# EAGLE library part EC20 (library basicBoard)
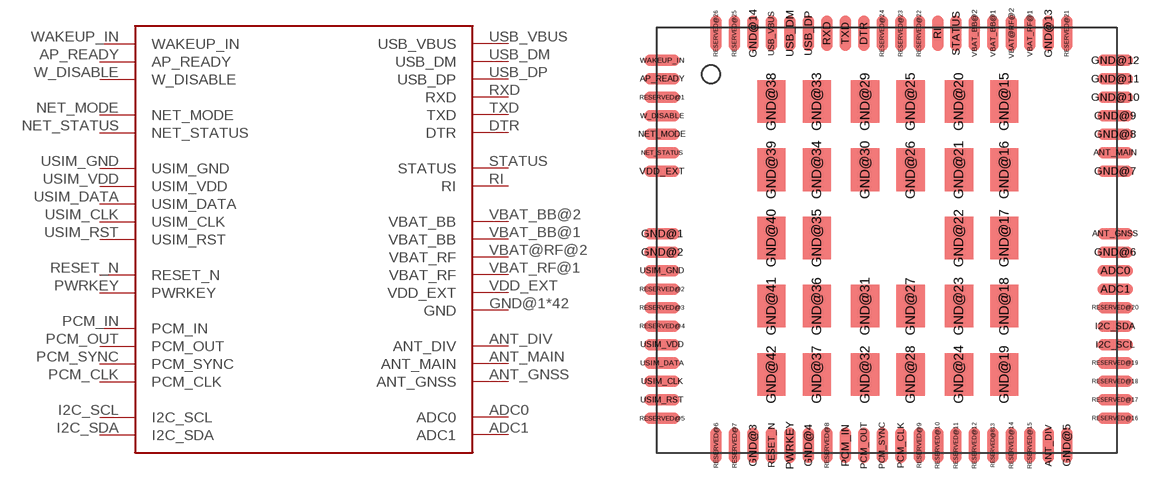
[diagram p11: symbol with the pads of EC20; footprint EC20]

Designator prefix -

## EC20  [EC20]
ADC0  ADC0
ADC1  ADC1
ANT_DIV  ANT_DIV
ANT_GNSS  ANT_GNSS
ANT_MAIN  ANT_MAIN
AP_READY  AP_READY
DTR  DTR
GND@1  GND
GND@2  GND
GND@3  GND
GND@4  GND
GND@5  GND
GND@6  GND
GND@7  GND
GND@8  GND
GND@9  GND
GND@10  GND
GND@11  GND
GND@12  GND
GND@13  GND
GND@14  GND
GND@15  GND
GND@16  GND
GND@17  GND
GND@18  GND
GND@19  GND
GND@20  GND
GND@21  GND
GND@22  GND
GND@23  GND
GND@24  GND
GND@25  GND
GND@26  GND
GND@27  GND
GND@28  GND
GND@29  GND
GND@30  GND
GND@31  GND
GND@32  GND
GND@33  GND
GND@34  GND
GND@35  GND
GND@36  GND
GND@37  GND
GND@38  GND
GND@39  GND
GND@40  GND
GND@41  GND
GND@42  GND
I2C_SCL  I2C_SCL
I2C_SDA  I2C_SDA
NET_MODE  NET_MODE
NET_STATUS  NET_STATUS
PCM_CLK  PCM_CLK
PCM_IN  PCM_IN
PCM_OUT  PCM_OUT
PCM_SYNC  PCM_SYNC
PWRKEY  PWRKEY
RESET_N  RESET_N
RI  RI
RXD  RXD
STATUS  STATUS
TXD  TXD
USB_DM  USB_DM
USB_DP  USB_DP
USB_VBUS  USB_VBUS
USIM_CLK  USIM_CLK
USIM_DATA  USIM_DATA
USIM_GND  USIM_GND
USIM_RST  USIM_RST
USIM_VDD  USIM_VDD
VBAT@RF@2  VBAT_RF
VBAT_BB@1  VBAT_BB
VBAT_BB@2  VBAT_BB
VBAT_RF@1  VBAT_RF
VDD_EXT  VDD_EXT
W_DISABLE  W_DISABLE
WAKEUP_IN  WAKEUP_IN

## Footprint EC20 (pad centres in mm)
smd 2.5 x 0.8: ADC0 16.4,-2.4; ADC1 16.4,-3.7; ANT_GNSS 16.4,0.2; ANT_MAIN 16.4,5.9; AP_READY -15.5,11.1; GND@1 -15.5,0.2; GND@2 -15.5,-1.1; GND@6 16.4,-1.1; GND@7 16.4,4.6; GND@8 16.4,7.2; GND@9 16.4,8.5; GND@10 16.4,9.8; GND@11 16.4,11.1; GND@12 16.4,12.4; I2C_SCL 16.4,-7.6; I2C_SDA 16.4,-6.3; NET_MODE -15.5,7.2; NET_STATUS -15.5,5.9; RESERVED@1 -15.5,9.8; RESERVED@2 -15.5,-3.7; RESERVED@3 -15.5,-5; RESERVED@4 -15.5,-6.3; RESERVED@5 -15.5,-12.8; RESERVED@16 16.4,-12.8; RESERVED@17 16.4,-11.5; RESERVED@18 16.4,-10.2; RESERVED@19 16.4,-8.9; RESERVED@20 16.4,-5; USIM_CLK -15.5,-10.2; USIM_DATA -15.5,-8.9; USIM_GND -15.5,-2.4; USIM_RST -15.5,-11.5; USIM_VDD -15.5,-7.6; VDD_EXT -15.5,4.6; W_DISABLE -15.5,8.5; WAKEUP_IN -15.5,12.4
smd 0.8 x 2.5: ANT_DIV 11.7,-14.7; DTR -1.3,14.3; GND@3 -9.1,-14.7; GND@4 -5.2,-14.7; GND@5 13,-14.7; GND@13 11.7,14.3; GND@14 -9.1,14.3; PCM_CLK 1.3,-14.7; PCM_IN -2.6,-14.7; PCM_OUT -1.3,-14.7; PCM_SYNC 0,-14.7; PWRKEY -6.5,-14.7; RESERVED@6 -11.7,-14.7; RESERVED@7 -10.4,-14.7; RESERVED@8 -3.9,-14.7; RESERVED@9 2.6,-14.7; RESERVED@10 3.9,-14.7; RESERVED@11 5.2,-14.7; RESERVED@12 6.5,-14.7; RESERVED@14 9.1,-14.7; RESERVED@15 10.4,-14.7; RESERVED@21 13,14.3; RESERVED@22 2.6,14.3; RESERVED@23 1.3,14.3; RESERVED@24 0,14.3; RESERVED@25 -10.4,14.3; RESERVED@26 -11.7,14.3; RESERVED@813 7.8,-14.7; RESET_N -7.8,-14.7; RI 3.9,14.3; RXD -3.9,14.3; STATUS 5.2,14.3; TXD -2.6,14.3; USB_DM -6.5,14.3; USB_DP -5.2,14.3; USB_VBUS -7.8,14.3; VBAT@RF@2 9.1,14.3; VBAT_BB@1 7.8,14.3; VBAT_BB@2 6.5,14.3; VBAT_RF@1 10.4,14.3
smd 2 x 3: GND@15 8.6,9.5; GND@16 8.6,4.7; GND@17 8.6,-0.1; GND@18 8.6,-4.9; GND@19 8.6,-9.7; GND@20 5.4,9.5; GND@21 5.4,4.7; GND@22 5.4,-0.1; GND@23 5.4,-4.9; GND@24 5.4,-9.7; GND@25 2,9.5; GND@26 2,4.7; GND@27 2,-4.9; GND@28 2,-9.7; GND@29 -1.2,9.5; GND@30 -1.2,4.7; GND@31 -1.2,-4.9; GND@32 -1.2,-9.7; GND@33 -4.6,9.5; GND@34 -4.6,4.7; GND@35 -4.6,-0.1; GND@36 -4.6,-4.9; GND@37 -4.6,-9.7; GND@38 -7.8,9.5; GND@39 -7.8,4.7; GND@40 -7.8,-0.1; GND@41 -7.8,-4.9; GND@42 -7.8,-9.7